# EAGLE library part DC-DC-CONVERTER_NSD15-48S5 (library RVschwarzenegger_Controller_RevA)
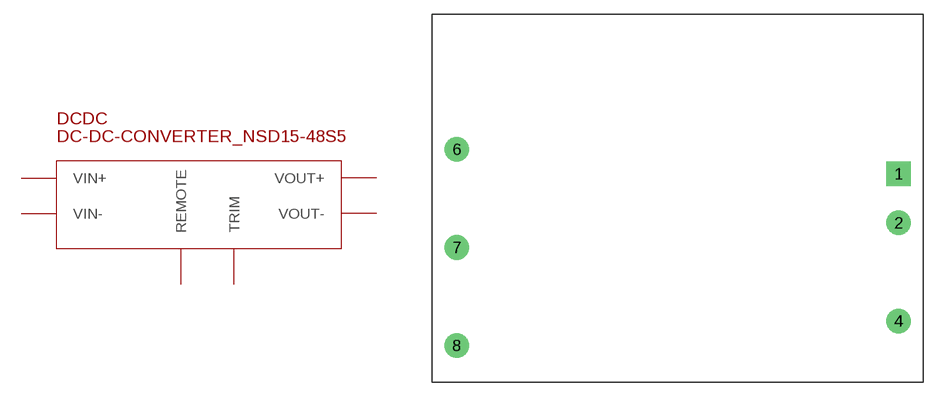
[diagram p2: symbol with the pads of DC-DC-CONVERTER_NSD15-48S5; footprint DC-DC-CONVERTER_NSD15-48S5]

Designator prefix DCDC

## DC-DC-CONVERTER_NSD15-48S5  [DC-DC-CONVERTER_NSD15-48S5]
1  VIN+
2  VIN-
4  REMOTE
6  VOUT+
7  VOUT-
8  TRIM

## Footprint DC-DC-CONVERTER_NSD15-48S5 (pad centres in mm)
drill 1.143 pad 2.54 square: 1 48.26,-16.51
drill 1.143 pad 2.54: 2 48.26,-21.59; 4 48.26,-31.75; 6 2.54,-13.97; 7 2.54,-24.13; 8 2.54,-34.29